# Altium integrated library LMK3C0105.IntLib: 1 symbol
Pins are listed as number, name and electrical type; pins without a type are passive.

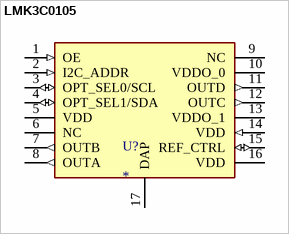
[diagram p0: symbol LMK3C0105]

## LMK3C0105
designator U?
Reference-less 5-LVCMOS-Output Programmable BAW Clock Generator; MP: TPS62130RGTR; Price: None; Availability: Unavailable; Package: None; Value: *
footprint QFN50P300X300X100-17N
pins: 1 OE (in), 2 I2C_ADDR (in), 3 OPT_SEL0/SCL (io), 4 OPT_SEL1/SDA (io), 5 VDD (power), 6 NC, 7 OUTB (out), 8 OUTA (out), 9 NC, 10 VDDO_0 (power), 11 OUTD (out), 12 OUTC (out), 13 VDDO_1 (power), 14 VDD (in), 15 REF_CTRL (io), 16 VDD (power), 17 DAP (power)